# Altium integrated library Vishay Sprague Tantalum Axial-Lead Capacitor.IntLib: 132 symbols (part 2 of 2)
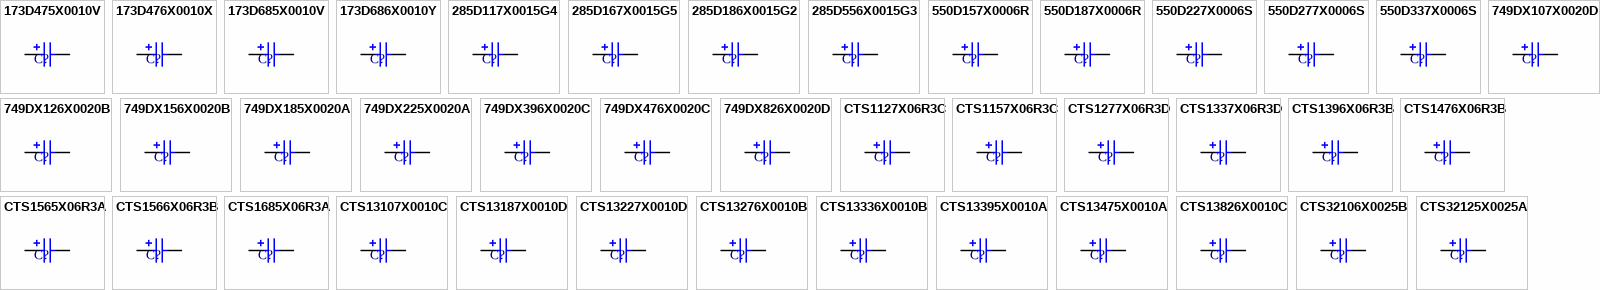
[diagram p4: symbols 173D475X0010V to CTS32125X0025A]

## CTS1476X06R3B
designator C?
Hermetically-Sealed, Axial-Lead, To CCEC Specifications: Type CTS1, 47uF, 20% Tolerance, 6.3 WVDC @ +85°C; Note: See Data Sheet for full range of components; Published: 19-Mar-2004; DatasheetDocument: 28-Mar-2002; PackageReference: CTS-B; Publisher: Altium Limited; ComponentLink1Description: Manufacturer Link; ComponentLink1URL: http://www.vishay.com/; ComponentLink2Description: Datasheet; ComponentLink2URL: http://www.vishay.com/docs/42073/cts749dx.pdf; Value: 47uF
footprint CTS-B (Capacitor, Axial, Polarised; Body 12.8 x 4.9 mm (LxDia. max), Lead Dia. 0.53 mm (typ))
simulation model CAP (Capacitor)
signal-integrity model CTS1476X06R3B2
pins: 1, 2
1 alternate drawing of the same symbol

## CTS1565X06R3A
designator C?
Hermetically-Sealed, Axial-Lead, To CCEC Specifications: Type CTS1, 5.6uF, 20% Tolerance, 6.3 WVDC @ +85°C; Note: See Data Sheet for full range of components; Published: 19-Mar-2004; DatasheetDocument: 28-Mar-2002; PackageReference: CTS-A; Publisher: Altium Limited; ComponentLink1Description: Manufacturer Link; ComponentLink1URL: http://www.vishay.com/; ComponentLink2Description: Datasheet; ComponentLink2URL: http://www.vishay.com/docs/42073/cts749dx.pdf; Value: 5.6uF
footprint CTS-A (Capacitor, Axial, Polarised; Body 8.1 x 3.6 mm (LxDia. max), Lead Dia. 0.53 mm (typ))
simulation model CAP (Capacitor)
signal-integrity model CTS1565X06R3A2
pins: 1, 2
1 alternate drawing of the same symbol

## CTS1566X06R3B
designator C?
Hermetically-Sealed, Axial-Lead, To CCEC Specifications: Type CTS1, 56uF, 20% Tolerance, 6.3 WVDC @ +85°C; Note: See Data Sheet for full range of components; Published: 19-Mar-2004; DatasheetDocument: 28-Mar-2002; PackageReference: CTS-B; Publisher: Altium Limited; ComponentLink1Description: Manufacturer Link; ComponentLink1URL: http://www.vishay.com/; ComponentLink2Description: Datasheet; ComponentLink2URL: http://www.vishay.com/docs/42073/cts749dx.pdf; Value: 56uF
footprint CTS-B (Capacitor, Axial, Polarised; Body 12.8 x 4.9 mm (LxDia. max), Lead Dia. 0.53 mm (typ))
simulation model CAP (Capacitor)
signal-integrity model CTS1566X06R3B2
pins: 1, 2
1 alternate drawing of the same symbol

## CTS1685X06R3A
designator C?
Hermetically-Sealed, Axial-Lead, To CCEC Specifications: Type CTS1, 6.8uF, 20% Tolerance, 6.3 WVDC @ +85°C; Note: See Data Sheet for full range of components; Published: 19-Mar-2004; DatasheetDocument: 28-Mar-2002; PackageReference: CTS-A; Publisher: Altium Limited; ComponentLink1Description: Manufacturer Link; ComponentLink1URL: http://www.vishay.com/; ComponentLink2Description: Datasheet; ComponentLink2URL: http://www.vishay.com/docs/42073/cts749dx.pdf; Value: 6.8uF
footprint CTS-A (Capacitor, Axial, Polarised; Body 8.1 x 3.6 mm (LxDia. max), Lead Dia. 0.53 mm (typ))
simulation model CAP (Capacitor)
signal-integrity model CTS1685X06R3A2
pins: 1, 2
1 alternate drawing of the same symbol

## CTS13107X0010C
designator C?
Hermetically-Sealed, Axial-Lead, To CCEC Specifications: Type CTS13, 100uF, 20% Tolerance, 10 WVDC @ +85°C; Note: See Data Sheet for full range of components; Published: 19-Mar-2004; DatasheetDocument: 28-Mar-2002; PackageReference: CTS-C; Publisher: Altium Limited; ComponentLink1Description: Manufacturer Link; ComponentLink1URL: http://www.vishay.com/; ComponentLink2Description: Datasheet; ComponentLink2URL: http://www.vishay.com/docs/42073/cts749dx.pdf; Value: 100uF
footprint CTS-C (Capacitor, Axial, Polarised; Body 18.2 x 7.5 mm (LxDia. max), Lead Dia. 0.63 mm (typ))
simulation model CAP (Capacitor)
signal-integrity model CTS13107X0010C2
pins: 1, 2
1 alternate drawing of the same symbol

## CTS13187X0010D
designator C?
Hermetically-Sealed, Axial-Lead, To CCEC Specifications: Type CTS13, 180uF, 20% Tolerance, 10 WVDC @ +85°C; Note: See Data Sheet for full range of components; Published: 19-Mar-2004; DatasheetDocument: 28-Mar-2002; PackageReference: CTS-D; Publisher: Altium Limited; ComponentLink1Description: Manufacturer Link; ComponentLink1URL: http://www.vishay.com/; ComponentLink2Description: Datasheet; ComponentLink2URL: http://www.vishay.com/docs/42073/cts749dx.pdf; Value: 180uF
footprint CTS-D (Capacitor, Axial, Polarised; Body 20.8 x 9.1 mm (LxDia. max), Lead Dia. 0.63 mm (typ))
simulation model CAP (Capacitor)
signal-integrity model CTS13187X0010D2
pins: 1, 2
1 alternate drawing of the same symbol

## CTS13227X0010D
designator C?
Hermetically-Sealed, Axial-Lead, To CCEC Specifications: Type CTS13, 220uF, 20% Tolerance, 10 WVDC @ +85°C; Note: See Data Sheet for full range of components; Published: 19-Mar-2004; DatasheetDocument: 28-Mar-2002; PackageReference: CTS-D; Publisher: Altium Limited; ComponentLink1Description: Manufacturer Link; ComponentLink1URL: http://www.vishay.com/; ComponentLink2Description: Datasheet; ComponentLink2URL: http://www.vishay.com/docs/42073/cts749dx.pdf; Value: 220uF
footprint CTS-D (Capacitor, Axial, Polarised; Body 20.8 x 9.1 mm (LxDia. max), Lead Dia. 0.63 mm (typ))
simulation model CAP (Capacitor)
signal-integrity model CTS13227X0010D2
pins: 1, 2
1 alternate drawing of the same symbol

## CTS13276X0010B
designator C?
Hermetically-Sealed, Axial-Lead, To CCEC Specifications: Type CTS13, 27uF, 20% Tolerance, 10 WVDC @ +85°C; Note: See Data Sheet for full range of components; Published: 19-Mar-2004; DatasheetDocument: 28-Mar-2002; PackageReference: CTS-B; Publisher: Altium Limited; ComponentLink1Description: Manufacturer Link; ComponentLink1URL: http://www.vishay.com/; ComponentLink2Description: Datasheet; ComponentLink2URL: http://www.vishay.com/docs/42073/cts749dx.pdf; Value: 27uF
footprint CTS-B (Capacitor, Axial, Polarised; Body 12.8 x 4.9 mm (LxDia. max), Lead Dia. 0.53 mm (typ))
simulation model CAP (Capacitor)
signal-integrity model CTS13276X0010B2
pins: 1, 2
1 alternate drawing of the same symbol

## CTS13336X0010B
designator C?
Hermetically-Sealed, Axial-Lead, To CCEC Specifications: Type CTS13, 33uF, 20% Tolerance, 10 WVDC @ +85°C; Note: See Data Sheet for full range of components; Published: 19-Mar-2004; DatasheetDocument: 28-Mar-2002; PackageReference: CTS-B; Publisher: Altium Limited; ComponentLink1Description: Manufacturer Link; ComponentLink1URL: http://www.vishay.com/; ComponentLink2Description: Datasheet; ComponentLink2URL: http://www.vishay.com/docs/42073/cts749dx.pdf; Value: 33uF
footprint CTS-B (Capacitor, Axial, Polarised; Body 12.8 x 4.9 mm (LxDia. max), Lead Dia. 0.53 mm (typ))
simulation model CAP (Capacitor)
signal-integrity model CTS13336X0010B2
pins: 1, 2
1 alternate drawing of the same symbol

## CTS13395X0010A
designator C?
Hermetically-Sealed, Axial-Lead, To CCEC Specifications: Type CTS13, 3.9uF, 20% Tolerance, 10 WVDC @ +85°C; Note: See Data Sheet for full range of components; Published: 19-Mar-2004; DatasheetDocument: 28-Mar-2002; PackageReference: CTS-A; Publisher: Altium Limited; ComponentLink1Description: Manufacturer Link; ComponentLink1URL: http://www.vishay.com/; ComponentLink2Description: Datasheet; ComponentLink2URL: http://www.vishay.com/docs/42073/cts749dx.pdf; Value: 3.9uF
footprint CTS-A (Capacitor, Axial, Polarised; Body 8.1 x 3.6 mm (LxDia. max), Lead Dia. 0.53 mm (typ))
simulation model CAP (Capacitor)
signal-integrity model CTS13395X0010A2
pins: 1, 2
1 alternate drawing of the same symbol

## CTS13475X0010A
designator C?
Hermetically-Sealed, Axial-Lead, To CCEC Specifications: Type CTS13, 4.7uF, 20% Tolerance, 10 WVDC @ +85°C; Note: See Data Sheet for full range of components; Published: 19-Mar-2004; DatasheetDocument: 28-Mar-2002; PackageReference: CTS-A; Publisher: Altium Limited; ComponentLink1Description: Manufacturer Link; ComponentLink1URL: http://www.vishay.com/; ComponentLink2Description: Datasheet; ComponentLink2URL: http://www.vishay.com/docs/42073/cts749dx.pdf; Value: 4.7uF
footprint CTS-A (Capacitor, Axial, Polarised; Body 8.1 x 3.6 mm (LxDia. max), Lead Dia. 0.53 mm (typ))
simulation model CAP (Capacitor)
signal-integrity model CTS13475X0010A2
pins: 1, 2
1 alternate drawing of the same symbol

## CTS13826X0010C
designator C?
Hermetically-Sealed, Axial-Lead, To CCEC Specifications: Type CTS13, 82uF, 20% Tolerance, 10 WVDC @ +85°C; Note: See Data Sheet for full range of components; Published: 19-Mar-2004; DatasheetDocument: 28-Mar-2002; PackageReference: CTS-C; Publisher: Altium Limited; ComponentLink1Description: Manufacturer Link; ComponentLink1URL: http://www.vishay.com/; ComponentLink2Description: Datasheet; ComponentLink2URL: http://www.vishay.com/docs/42073/cts749dx.pdf; Value: 82uF
footprint CTS-C (Capacitor, Axial, Polarised; Body 18.2 x 7.5 mm (LxDia. max), Lead Dia. 0.63 mm (typ))
simulation model CAP (Capacitor)
signal-integrity model CTS13826X0010C2
pins: 1, 2
1 alternate drawing of the same symbol

## CTS32106X0025B
designator C?
Hermetically-Sealed, Axial-Lead, To CCEC Specifications: Type CTS32, 10uF, 20% Tolerance, 25 WVDC @ +85°C; Note: See Data Sheet for full range of components; Published: 19-Mar-2004; DatasheetDocument: 28-Mar-2002; PackageReference: CTS-B; Publisher: Altium Limited; ComponentLink1Description: Manufacturer Link; ComponentLink1URL: http://www.vishay.com/; ComponentLink2Description: Datasheet; ComponentLink2URL: http://www.vishay.com/docs/42073/cts749dx.pdf; Value: 10uF
footprint CTS-B (Capacitor, Axial, Polarised; Body 12.8 x 4.9 mm (LxDia. max), Lead Dia. 0.53 mm (typ))
simulation model CAP (Capacitor)
signal-integrity model CTS32106X0025B2
pins: 1, 2
1 alternate drawing of the same symbol

## CTS32125X0025A
designator C?
Hermetically-Sealed, Axial-Lead, To CCEC Specifications: Type CTS32, 1.2uF, 20% Tolerance, 25 WVDC @ +85°C; Note: See Data Sheet for full range of components; Published: 19-Mar-2004; DatasheetDocument: 28-Mar-2002; PackageReference: CTS-A; Publisher: Altium Limited; ComponentLink1Description: Manufacturer Link; ComponentLink1URL: http://www.vishay.com/; ComponentLink2Description: Datasheet; ComponentLink2URL: http://www.vishay.com/docs/42073/cts749dx.pdf; Value: 1.2uF
footprint CTS-A (Capacitor, Axial, Polarised; Body 8.1 x 3.6 mm (LxDia. max), Lead Dia. 0.53 mm (typ))
simulation model CAP (Capacitor)
signal-integrity model CTS32125X0025A2
pins: 1, 2
1 alternate drawing of the same symbol

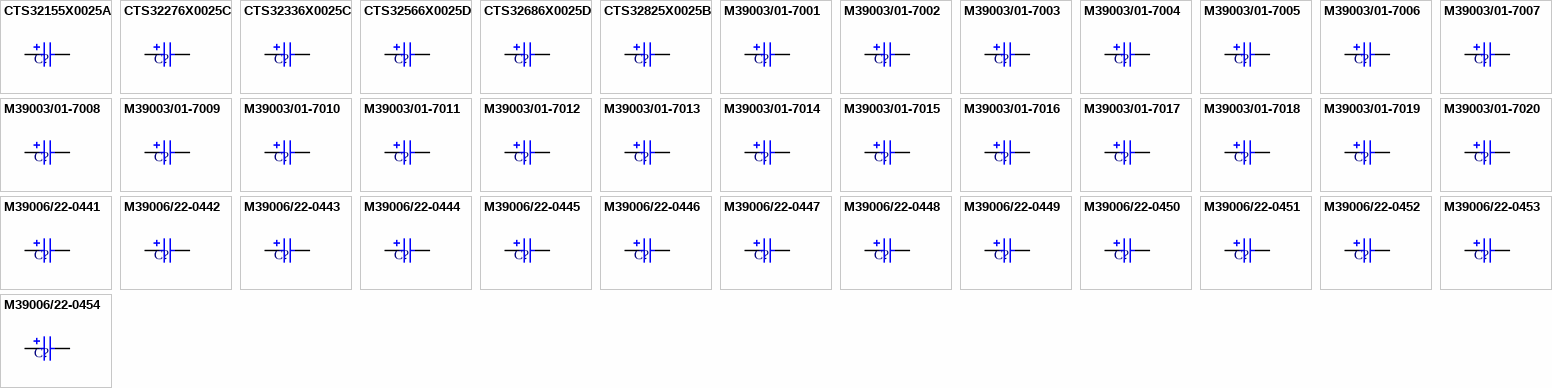
[diagram p2: symbols CTS32155X0025A to M39006/22-0454]

## CTS32155X0025A
designator C?
Hermetically-Sealed, Axial-Lead, To CCEC Specifications: Type CTS32, 1.5uF, 20% Tolerance, 25 WVDC @ +85°C; Note: See Data Sheet for full range of components; Published: 19-Mar-2004; DatasheetDocument: 28-Mar-2002; PackageReference: CTS-A; Publisher: Altium Limited; ComponentLink1Description: Manufacturer Link; ComponentLink1URL: http://www.vishay.com/; ComponentLink2Description: Datasheet; ComponentLink2URL: http://www.vishay.com/docs/42073/cts749dx.pdf; Value: 1.5uF
footprint CTS-A (Capacitor, Axial, Polarised; Body 8.1 x 3.6 mm (LxDia. max), Lead Dia. 0.53 mm (typ))
simulation model CAP (Capacitor)
signal-integrity model CTS32155X0025A2
pins: 1, 2
1 alternate drawing of the same symbol

## CTS32276X0025C
designator C?
Hermetically-Sealed, Axial-Lead, To CCEC Specifications: Type CTS32, 27uF, 20% Tolerance, 25 WVDC @ +85°C; Note: See Data Sheet for full range of components; Published: 19-Mar-2004; DatasheetDocument: 28-Mar-2002; PackageReference: CTS-C; Publisher: Altium Limited; ComponentLink1Description: Manufacturer Link; ComponentLink1URL: http://www.vishay.com/; ComponentLink2Description: Datasheet; ComponentLink2URL: http://www.vishay.com/docs/42073/cts749dx.pdf; Value: 27uF
footprint CTS-C (Capacitor, Axial, Polarised; Body 18.2 x 7.5 mm (LxDia. max), Lead Dia. 0.63 mm (typ))
simulation model CAP (Capacitor)
signal-integrity model CTS32276X0025C2
pins: 1, 2
1 alternate drawing of the same symbol

## CTS32336X0025C
designator C?
Hermetically-Sealed, Axial-Lead, To CCEC Specifications: Type CTS32, 33uF, 20% Tolerance, 25 WVDC @ +85°C; Note: See Data Sheet for full range of components; Published: 19-Mar-2004; DatasheetDocument: 28-Mar-2002; PackageReference: CTS-C; Publisher: Altium Limited; ComponentLink1Description: Manufacturer Link; ComponentLink1URL: http://www.vishay.com/; ComponentLink2Description: Datasheet; ComponentLink2URL: http://www.vishay.com/docs/42073/cts749dx.pdf; Value: 33uF
footprint CTS-C (Capacitor, Axial, Polarised; Body 18.2 x 7.5 mm (LxDia. max), Lead Dia. 0.63 mm (typ))
simulation model CAP (Capacitor)
signal-integrity model CTS32336X0025C2
pins: 1, 2
1 alternate drawing of the same symbol

## CTS32566X0025D
designator C?
Hermetically-Sealed, Axial-Lead, To CCEC Specifications: Type CTS32, 56uF, 20% Tolerance, 25 WVDC @ +85°C; Note: See Data Sheet for full range of components; Published: 19-Mar-2004; DatasheetDocument: 28-Mar-2002; PackageReference: CTS-D; Publisher: Altium Limited; ComponentLink1Description: Manufacturer Link; ComponentLink1URL: http://www.vishay.com/; ComponentLink2Description: Datasheet; ComponentLink2URL: http://www.vishay.com/docs/42073/cts749dx.pdf; Value: 56uF
footprint CTS-D (Capacitor, Axial, Polarised; Body 20.8 x 9.1 mm (LxDia. max), Lead Dia. 0.63 mm (typ))
simulation model CAP (Capacitor)
signal-integrity model CTS32566X0025D2
pins: 1, 2
1 alternate drawing of the same symbol

## CTS32686X0025D
designator C?
Hermetically-Sealed, Axial-Lead, To CCEC Specifications: Type CTS32, 68uF, 20% Tolerance, 25 WVDC @ +85°C; Note: See Data Sheet for full range of components; Published: 19-Mar-2004; DatasheetDocument: 28-Mar-2002; PackageReference: CTS-D; Publisher: Altium Limited; ComponentLink1Description: Manufacturer Link; ComponentLink1URL: http://www.vishay.com/; ComponentLink2Description: Datasheet; ComponentLink2URL: http://www.vishay.com/docs/42073/cts749dx.pdf; Value: 68uF
footprint CTS-D (Capacitor, Axial, Polarised; Body 20.8 x 9.1 mm (LxDia. max), Lead Dia. 0.63 mm (typ))
simulation model CAP (Capacitor)
signal-integrity model CTS32686X0025D2
pins: 1, 2
1 alternate drawing of the same symbol

## CTS32825X0025B
designator C?
Hermetically-Sealed, Axial-Lead, To CCEC Specifications: Type CTS32, 8.2uF, 20% Tolerance, 25 WVDC @ +85°C; Note: See Data Sheet for full range of components; Published: 19-Mar-2004; DatasheetDocument: 28-Mar-2002; PackageReference: CTS-B; Publisher: Altium Limited; ComponentLink1Description: Manufacturer Link; ComponentLink1URL: http://www.vishay.com/; ComponentLink2Description: Datasheet; ComponentLink2URL: http://www.vishay.com/docs/42073/cts749dx.pdf; Value: 8.2uF
footprint CTS-B (Capacitor, Axial, Polarised; Body 12.8 x 4.9 mm (LxDia. max), Lead Dia. 0.53 mm (typ))
simulation model CAP (Capacitor)
signal-integrity model CTS32825X0025B2
pins: 1, 2
1 alternate drawing of the same symbol

## M39003/01-7001
designator C?
Military MIL-C-39003 Qualified Solid-Electrolyte Tantalex Capacitor: Axial-Lead, 5.6uF, 5% Tolerance, 6 WVDC @ +85°C, Surge = 8V; Note: See Data Sheet for full range of components; Published: 19-Mar-2004; DatasheetDocument: 26-Mar-2002; PackageReference: CSR13-A; Publisher: Altium Limited; ComponentLink1Description: Manufacturer Link; ComponentLink1URL: http://www.vishay.com/; ComponentLink2Description: Datasheet; ComponentLink2URL: http://www.vishay.com/docs/40018/m39003.pdf; Value: 5.6uF
footprint CSR13-A (Capacitor, Axial, Polarised; Body 8.1 x 3.8 mm (LxDia. max), Lead Dia. 0.51 mm (typ))
simulation model CAP (Capacitor)
signal-integrity model M39003/01-7001
pins: 1, 2
1 alternate drawing of the same symbol

## M39003/01-7002
designator C?
Military MIL-C-39003 Qualified Solid-Electrolyte Tantalex Capacitor: Axial-Lead, 5.6uF, 10% Tolerance, 6 WVDC @ +85°C, Surge = 8V; Note: See Data Sheet for full range of components; Published: 19-Mar-2004; DatasheetDocument: 26-Mar-2002; PackageReference: CSR13-A; Publisher: Altium Limited; ComponentLink1Description: Manufacturer Link; ComponentLink1URL: http://www.vishay.com/; ComponentLink2Description: Datasheet; ComponentLink2URL: http://www.vishay.com/docs/40018/m39003.pdf; Value: 5.6uF
footprint CSR13-A (Capacitor, Axial, Polarised; Body 8.1 x 3.8 mm (LxDia. max), Lead Dia. 0.51 mm (typ))
simulation model CAP (Capacitor)
signal-integrity model M39003/01-7002
pins: 1, 2
1 alternate drawing of the same symbol

## M39003/01-7003
designator C?
Military MIL-C-39003 Qualified Solid-Electrolyte Tantalex Capacitor: Axial-Lead, 6.8uF, 5% Tolerance, 6 WVDC @ +85°C, Surge = 8V; Note: See Data Sheet for full range of components; Published: 19-Mar-2004; DatasheetDocument: 26-Mar-2002; PackageReference: CSR13-A; Publisher: Altium Limited; ComponentLink1Description: Manufacturer Link; ComponentLink1URL: http://www.vishay.com/; ComponentLink2Description: Datasheet; ComponentLink2URL: http://www.vishay.com/docs/40018/m39003.pdf; Value: 6.8uF
footprint CSR13-A (Capacitor, Axial, Polarised; Body 8.1 x 3.8 mm (LxDia. max), Lead Dia. 0.51 mm (typ))
simulation model CAP (Capacitor)
signal-integrity model M39003/01-7003
pins: 1, 2
1 alternate drawing of the same symbol

## M39003/01-7004
designator C?
Military MIL-C-39003 Qualified Solid-Electrolyte Tantalex Capacitor: Axial-Lead, 6.8uF, 10% Tolerance, 6 WVDC @ +85°C, Surge = 8V; Note: See Data Sheet for full range of components; Published: 19-Mar-2004; DatasheetDocument: 26-Mar-2002; PackageReference: CSR13-A; Publisher: Altium Limited; ComponentLink1Description: Manufacturer Link; ComponentLink1URL: http://www.vishay.com/; ComponentLink2Description: Datasheet; ComponentLink2URL: http://www.vishay.com/docs/40018/m39003.pdf; Value: 6.8uF
footprint CSR13-A (Capacitor, Axial, Polarised; Body 8.1 x 3.8 mm (LxDia. max), Lead Dia. 0.51 mm (typ))
simulation model CAP (Capacitor)
signal-integrity model M39003/01-7004
pins: 1, 2
1 alternate drawing of the same symbol

## M39003/01-7005
designator C?
Military MIL-C-39003 Qualified Solid-Electrolyte Tantalex Capacitor: Axial-Lead, 6.8uF, 20% Tolerance, 6 WVDC @ +85°C, Surge = 8V; Note: See Data Sheet for full range of components; Published: 19-Mar-2004; DatasheetDocument: 26-Mar-2002; PackageReference: CSR13-A; Publisher: Altium Limited; ComponentLink1Description: Manufacturer Link; ComponentLink1URL: http://www.vishay.com/; ComponentLink2Description: Datasheet; ComponentLink2URL: http://www.vishay.com/docs/40018/m39003.pdf; Value: 6.8uF
footprint CSR13-A (Capacitor, Axial, Polarised; Body 8.1 x 3.8 mm (LxDia. max), Lead Dia. 0.51 mm (typ))
simulation model CAP (Capacitor)
signal-integrity model M39003/01-7005
pins: 1, 2
1 alternate drawing of the same symbol

## M39003/01-7006
designator C?
Military MIL-C-39003 Qualified Solid-Electrolyte Tantalex Capacitor: Axial-Lead, 47uF, 5% Tolerance, 6 WVDC @ +85°C, Surge = 8V; Note: See Data Sheet for full range of components; Published: 19-Mar-2004; DatasheetDocument: 26-Mar-2002; PackageReference: CSR13-B; Publisher: Altium Limited; ComponentLink1Description: Manufacturer Link; ComponentLink1URL: http://www.vishay.com/; ComponentLink2Description: Datasheet; ComponentLink2URL: http://www.vishay.com/docs/40018/m39003.pdf; Value: 47uF
footprint CSR13-B (Capacitor, Axial, Polarised; Body 12.8 x 5.1 mm (LxDia. max), Lead Dia. 0.51 mm (typ))
simulation model CAP (Capacitor)
signal-integrity model M39003/01-7006
pins: 1, 2
1 alternate drawing of the same symbol

## M39003/01-7007
designator C?
Military MIL-C-39003 Qualified Solid-Electrolyte Tantalex Capacitor: Axial-Lead, 47uF, 10% Tolerance, 6 WVDC @ +85°C, Surge = 8V; Note: See Data Sheet for full range of components; Published: 19-Mar-2004; DatasheetDocument: 26-Mar-2002; PackageReference: CSR13-B; Publisher: Altium Limited; ComponentLink1Description: Manufacturer Link; ComponentLink1URL: http://www.vishay.com/; ComponentLink2Description: Datasheet; ComponentLink2URL: http://www.vishay.com/docs/40018/m39003.pdf; Value: 47uF
footprint CSR13-B (Capacitor, Axial, Polarised; Body 12.8 x 5.1 mm (LxDia. max), Lead Dia. 0.51 mm (typ))
simulation model CAP (Capacitor)
signal-integrity model M39003/01-7007
pins: 1, 2
1 alternate drawing of the same symbol

## M39003/01-7008
designator C?
Military MIL-C-39003 Qualified Solid-Electrolyte Tantalex Capacitor: Axial-Lead, 47uF, 20% Tolerance, 6 WVDC @ +85°C, Surge = 8V; Note: See Data Sheet for full range of components; Published: 19-Mar-2004; DatasheetDocument: 26-Mar-2002; PackageReference: CSR13-B; Publisher: Altium Limited; ComponentLink1Description: Manufacturer Link; ComponentLink1URL: http://www.vishay.com/; ComponentLink2Description: Datasheet; ComponentLink2URL: http://www.vishay.com/docs/40018/m39003.pdf; Value: 47uF
footprint CSR13-B (Capacitor, Axial, Polarised; Body 12.8 x 5.1 mm (LxDia. max), Lead Dia. 0.51 mm (typ))
simulation model CAP (Capacitor)
signal-integrity model M39003/01-7008
pins: 1, 2
1 alternate drawing of the same symbol

## M39003/01-7009
designator C?
Military MIL-C-39003 Qualified Solid-Electrolyte Tantalex Capacitor: Axial-Lead, 56uF, 5% Tolerance, 6 WVDC @ +85°C, Surge = 8V; Note: See Data Sheet for full range of components; Published: 19-Mar-2004; DatasheetDocument: 26-Mar-2002; PackageReference: CSR13-B; Publisher: Altium Limited; ComponentLink1Description: Manufacturer Link; ComponentLink1URL: http://www.vishay.com/; ComponentLink2Description: Datasheet; ComponentLink2URL: http://www.vishay.com/docs/40018/m39003.pdf; Value: 56uF
footprint CSR13-B (Capacitor, Axial, Polarised; Body 12.8 x 5.1 mm (LxDia. max), Lead Dia. 0.51 mm (typ))
simulation model CAP (Capacitor)
signal-integrity model M39003/01-7009
pins: 1, 2
1 alternate drawing of the same symbol

## M39003/01-7010
designator C?
Military MIL-C-39003 Qualified Solid-Electrolyte Tantalex Capacitor: Axial-Lead, 56uF, 10% Tolerance, 6 WVDC @ +85°C, Surge = 8V; Note: See Data Sheet for full range of components; Published: 19-Mar-2004; DatasheetDocument: 26-Mar-2002; PackageReference: CSR13-B; Publisher: Altium Limited; ComponentLink1Description: Manufacturer Link; ComponentLink1URL: http://www.vishay.com/; ComponentLink2Description: Datasheet; ComponentLink2URL: http://www.vishay.com/docs/40018/m39003.pdf; Value: 56uF
footprint CSR13-B (Capacitor, Axial, Polarised; Body 12.8 x 5.1 mm (LxDia. max), Lead Dia. 0.51 mm (typ))
simulation model CAP (Capacitor)
signal-integrity model M39003/01-7010
pins: 1, 2
1 alternate drawing of the same symbol

## M39003/01-7011
designator C?
Military MIL-C-39003 Qualified Solid-Electrolyte Tantalex Capacitor: Axial-Lead, 150uF, 5% Tolerance, 6 WVDC @ +85°C, Surge = 8V; Note: See Data Sheet for full range of components; Published: 19-Mar-2004; DatasheetDocument: 26-Mar-2002; PackageReference: CSR13-C; Publisher: Altium Limited; ComponentLink1Description: Manufacturer Link; ComponentLink1URL: http://www.vishay.com/; ComponentLink2Description: Datasheet; ComponentLink2URL: http://www.vishay.com/docs/40018/m39003.pdf; Value: 150uF
footprint CSR13-C (Capacitor, Axial, Polarised; Body 18.2 x 7.7 mm (LxDia. max), Lead Dia. 0.64 mm (typ))
simulation model CAP (Capacitor)
signal-integrity model M39003/01-7011
pins: 1, 2
1 alternate drawing of the same symbol

## M39003/01-7012
designator C?
Military MIL-C-39003 Qualified Solid-Electrolyte Tantalex Capacitor: Axial-Lead, 150uF, 10% Tolerance, 6 WVDC @ +85°C, Surge = 8V; Note: See Data Sheet for full range of components; Published: 19-Mar-2004; DatasheetDocument: 26-Mar-2002; PackageReference: CSR13-C; Publisher: Altium Limited; ComponentLink1Description: Manufacturer Link; ComponentLink1URL: http://www.vishay.com/; ComponentLink2Description: Datasheet; ComponentLink2URL: http://www.vishay.com/docs/40018/m39003.pdf; Value: 150uF
footprint CSR13-C (Capacitor, Axial, Polarised; Body 18.2 x 7.7 mm (LxDia. max), Lead Dia. 0.64 mm (typ))
simulation model CAP (Capacitor)
signal-integrity model M39003/01-7012
pins: 1, 2
1 alternate drawing of the same symbol

## M39003/01-7013
designator C?
Military MIL-C-39003 Qualified Solid-Electrolyte Tantalex Capacitor: Axial-Lead, 150uF, 20% Tolerance, 6 WVDC @ +85°C, Surge = 8V; Note: See Data Sheet for full range of components; Published: 19-Mar-2004; DatasheetDocument: 26-Mar-2002; PackageReference: CSR13-C; Publisher: Altium Limited; ComponentLink1Description: Manufacturer Link; ComponentLink1URL: http://www.vishay.com/; ComponentLink2Description: Datasheet; ComponentLink2URL: http://www.vishay.com/docs/40018/m39003.pdf; Value: 150uF
footprint CSR13-C (Capacitor, Axial, Polarised; Body 18.2 x 7.7 mm (LxDia. max), Lead Dia. 0.64 mm (typ))
simulation model CAP (Capacitor)
signal-integrity model M39003/01-7013
pins: 1, 2
1 alternate drawing of the same symbol

## M39003/01-7014
designator C?
Military MIL-C-39003 Qualified Solid-Electrolyte Tantalex Capacitor: Axial-Lead, 180uF, 5% Tolerance, 6 WVDC @ +85°C, Surge = 8V; Note: See Data Sheet for full range of components; Published: 19-Mar-2004; DatasheetDocument: 26-Mar-2002; PackageReference: CSR13-C; Publisher: Altium Limited; ComponentLink1Description: Manufacturer Link; ComponentLink1URL: http://www.vishay.com/; ComponentLink2Description: Datasheet; ComponentLink2URL: http://www.vishay.com/docs/40018/m39003.pdf; Value: 180uF
footprint CSR13-C (Capacitor, Axial, Polarised; Body 18.2 x 7.7 mm (LxDia. max), Lead Dia. 0.64 mm (typ))
simulation model CAP (Capacitor)
signal-integrity model M39003/01-7014
pins: 1, 2
1 alternate drawing of the same symbol

## M39003/01-7015
designator C?
Military MIL-C-39003 Qualified Solid-Electrolyte Tantalex Capacitor: Axial-Lead, 180uF, 10% Tolerance, 6 WVDC @ +85°C, Surge = 8V; Note: See Data Sheet for full range of components; Published: 19-Mar-2004; DatasheetDocument: 26-Mar-2002; PackageReference: CSR13-C; Publisher: Altium Limited; ComponentLink1Description: Manufacturer Link; ComponentLink1URL: http://www.vishay.com/; ComponentLink2Description: Datasheet; ComponentLink2URL: http://www.vishay.com/docs/40018/m39003.pdf; Value: 180uF
footprint CSR13-C (Capacitor, Axial, Polarised; Body 18.2 x 7.7 mm (LxDia. max), Lead Dia. 0.64 mm (typ))
simulation model CAP (Capacitor)
signal-integrity model M39003/01-7015
pins: 1, 2
1 alternate drawing of the same symbol

## M39003/01-7016
designator C?
Military MIL-C-39003 Qualified Solid-Electrolyte Tantalex Capacitor: Axial-Lead, 270uF, 5% Tolerance, 6 WVDC @ +85°C, Surge = 8V; Note: See Data Sheet for full range of components; Published: 19-Mar-2004; DatasheetDocument: 26-Mar-2002; PackageReference: CSR13-D; Publisher: Altium Limited; ComponentLink1Description: Manufacturer Link; ComponentLink1URL: http://www.vishay.com/; ComponentLink2Description: Datasheet; ComponentLink2URL: http://www.vishay.com/docs/40018/m39003.pdf; Value: 270uF
footprint CSR13-D (Capacitor, Axial, Polarised; Body 20.8 x 9.3 mm (LxDia. max), Lead Dia. 0.64 mm (typ))
simulation model CAP (Capacitor)
signal-integrity model M39003/01-7016
pins: 1, 2
1 alternate drawing of the same symbol

## M39003/01-7017
designator C?
Military MIL-C-39003 Qualified Solid-Electrolyte Tantalex Capacitor: Axial-Lead, 270uF, 10% Tolerance, 6 WVDC @ +85°C, Surge = 8V; Note: See Data Sheet for full range of components; Published: 19-Mar-2004; DatasheetDocument: 26-Mar-2002; PackageReference: CSR13-D; Publisher: Altium Limited; ComponentLink1Description: Manufacturer Link; ComponentLink1URL: http://www.vishay.com/; ComponentLink2Description: Datasheet; ComponentLink2URL: http://www.vishay.com/docs/40018/m39003.pdf; Value: 270uF
footprint CSR13-D (Capacitor, Axial, Polarised; Body 20.8 x 9.3 mm (LxDia. max), Lead Dia. 0.64 mm (typ))
simulation model CAP (Capacitor)
signal-integrity model M39003/01-7017
pins: 1, 2
1 alternate drawing of the same symbol

## M39003/01-7018
designator C?
Military MIL-C-39003 Qualified Solid-Electrolyte Tantalex Capacitor: Axial-Lead, 330uF, 5% Tolerance, 6 WVDC @ +85°C, Surge = 8V; Note: See Data Sheet for full range of components; Published: 19-Mar-2004; DatasheetDocument: 26-Mar-2002; PackageReference: CSR13-D; Publisher: Altium Limited; ComponentLink1Description: Manufacturer Link; ComponentLink1URL: http://www.vishay.com/; ComponentLink2Description: Datasheet; ComponentLink2URL: http://www.vishay.com/docs/40018/m39003.pdf; Value: 330uF
footprint CSR13-D (Capacitor, Axial, Polarised; Body 20.8 x 9.3 mm (LxDia. max), Lead Dia. 0.64 mm (typ))
simulation model CAP (Capacitor)
signal-integrity model M39003/01-7018
pins: 1, 2
1 alternate drawing of the same symbol

## M39003/01-7019
designator C?
Military MIL-C-39003 Qualified Solid-Electrolyte Tantalex Capacitor: Axial-Lead, 330uF, 10% Tolerance, 6 WVDC @ +85°C, Surge = 8V; Note: See Data Sheet for full range of components; Published: 19-Mar-2004; DatasheetDocument: 26-Mar-2002; PackageReference: CSR13-D; Publisher: Altium Limited; ComponentLink1Description: Manufacturer Link; ComponentLink1URL: http://www.vishay.com/; ComponentLink2Description: Datasheet; ComponentLink2URL: http://www.vishay.com/docs/40018/m39003.pdf; Value: 330uF
footprint CSR13-D (Capacitor, Axial, Polarised; Body 20.8 x 9.3 mm (LxDia. max), Lead Dia. 0.64 mm (typ))
simulation model CAP (Capacitor)
signal-integrity model M39003/01-7019
pins: 1, 2
1 alternate drawing of the same symbol

## M39003/01-7020
designator C?
Military MIL-C-39003 Qualified Solid-Electrolyte Tantalex Capacitor: Axial-Lead, 330uF, 20% Tolerance, 6 WVDC @ +85°C, Surge = 8V; Note: See Data Sheet for full range of components; Published: 19-Mar-2004; DatasheetDocument: 26-Mar-2002; PackageReference: CSR13-D; Publisher: Altium Limited; ComponentLink1Description: Manufacturer Link; ComponentLink1URL: http://www.vishay.com/; ComponentLink2Description: Datasheet; ComponentLink2URL: http://www.vishay.com/docs/40018/m39003.pdf; Value: 330uF
footprint CSR13-D (Capacitor, Axial, Polarised; Body 20.8 x 9.3 mm (LxDia. max), Lead Dia. 0.64 mm (typ))
simulation model CAP (Capacitor)
signal-integrity model M39003/01-7020
pins: 1, 2
1 alternate drawing of the same symbol

## M39006/22-0441
designator C?
Military MIL-C-39006 Qualified Wet Tantalum Capacitor: Axial-Lead, 30uF, 20% Tolerance, 6 WVDC @ +85°C; Note: See Data Sheet for full range of components; Published: 19-Mar-2004; DatasheetDocument: 29-Jan-2003; PackageReference: T1; Publisher: Altium Limited; ComponentLink1Description: Manufacturer Link; ComponentLink1URL: http://www.vishay.com/; ComponentLink2Description: Datasheet; ComponentLink2URL: http://www.vishay.com/docs/40022/m39006.pdf; Value: 30uF
footprint T1 (Capacitor, Axial, Polarised; Body 12.3 x 5.2 mm (LxDia. max), Lead Dia. 0.64 mm (typ))
simulation model CAP (Capacitor)
signal-integrity model M39006/22-0441
pins: 1, 2
1 alternate drawing of the same symbol

## M39006/22-0442
designator C?
Military MIL-C-39006 Qualified Wet Tantalum Capacitor: Axial-Lead, 30uF, 10% Tolerance, 6 WVDC @ +85°C; Note: See Data Sheet for full range of components; Published: 19-Mar-2004; DatasheetDocument: 29-Jan-2003; PackageReference: T1; Publisher: Altium Limited; ComponentLink1Description: Manufacturer Link; ComponentLink1URL: http://www.vishay.com/; ComponentLink2Description: Datasheet; ComponentLink2URL: http://www.vishay.com/docs/40022/m39006.pdf; Value: 30uF
footprint T1 (Capacitor, Axial, Polarised; Body 12.3 x 5.2 mm (LxDia. max), Lead Dia. 0.64 mm (typ))
simulation model CAP (Capacitor)
signal-integrity model M39006/22-0442
pins: 1, 2
1 alternate drawing of the same symbol

## M39006/22-0443
designator C?
Military MIL-C-39006 Qualified Wet Tantalum Capacitor: Axial-Lead, 30uF, 5% Tolerance, 6 WVDC @ +85°C; Note: See Data Sheet for full range of components; Published: 19-Mar-2004; DatasheetDocument: 29-Jan-2003; PackageReference: T1; Publisher: Altium Limited; ComponentLink1Description: Manufacturer Link; ComponentLink1URL: http://www.vishay.com/; ComponentLink2Description: Datasheet; ComponentLink2URL: http://www.vishay.com/docs/40022/m39006.pdf; Value: 30uF
footprint T1 (Capacitor, Axial, Polarised; Body 12.3 x 5.2 mm (LxDia. max), Lead Dia. 0.64 mm (typ))
simulation model CAP (Capacitor)
signal-integrity model M39006/22-0443
pins: 1, 2
1 alternate drawing of the same symbol

## M39006/22-0444
designator C?
Military MIL-C-39006 Qualified Wet Tantalum Capacitor: Axial-Lead, 68uF, 20% Tolerance, 6 WVDC @ +85°C; Note: See Data Sheet for full range of components; Published: 19-Mar-2004; DatasheetDocument: 29-Jan-2003; PackageReference: T1; Publisher: Altium Limited; ComponentLink1Description: Manufacturer Link; ComponentLink1URL: http://www.vishay.com/; ComponentLink2Description: Datasheet; ComponentLink2URL: http://www.vishay.com/docs/40022/m39006.pdf; Value: 68uF
footprint T1 (Capacitor, Axial, Polarised; Body 12.3 x 5.2 mm (LxDia. max), Lead Dia. 0.64 mm (typ))
simulation model CAP (Capacitor)
signal-integrity model M39006/22-0444
pins: 1, 2
1 alternate drawing of the same symbol

## M39006/22-0445
designator C?
Military MIL-C-39006 Qualified Wet Tantalum Capacitor: Axial-Lead, 68uF, 10% Tolerance, 6 WVDC @ +85°C; Note: See Data Sheet for full range of components; Published: 19-Mar-2004; DatasheetDocument: 29-Jan-2003; PackageReference: T1; Publisher: Altium Limited; ComponentLink1Description: Manufacturer Link; ComponentLink1URL: http://www.vishay.com/; ComponentLink2Description: Datasheet; ComponentLink2URL: http://www.vishay.com/docs/40022/m39006.pdf; Value: 68uF
footprint T1 (Capacitor, Axial, Polarised; Body 12.3 x 5.2 mm (LxDia. max), Lead Dia. 0.64 mm (typ))
simulation model CAP (Capacitor)
signal-integrity model M39006/22-0445
pins: 1, 2
1 alternate drawing of the same symbol

## M39006/22-0446
designator C?
Military MIL-C-39006 Qualified Wet Tantalum Capacitor: Axial-Lead, 68uF, 5% Tolerance, 6 WVDC @ +85°C; Note: See Data Sheet for full range of components; Published: 19-Mar-2004; DatasheetDocument: 29-Jan-2003; PackageReference: T1; Publisher: Altium Limited; ComponentLink1Description: Manufacturer Link; ComponentLink1URL: http://www.vishay.com/; ComponentLink2Description: Datasheet; ComponentLink2URL: http://www.vishay.com/docs/40022/m39006.pdf; Value: 68uF
footprint T1 (Capacitor, Axial, Polarised; Body 12.3 x 5.2 mm (LxDia. max), Lead Dia. 0.64 mm (typ))
simulation model CAP (Capacitor)
signal-integrity model M39006/22-0446
pins: 1, 2
1 alternate drawing of the same symbol

## M39006/22-0447
designator C?
Military MIL-C-39006 Qualified Wet Tantalum Capacitor: Axial-Lead, 140uF, 20% Tolerance, 6 WVDC @ +85°C; Note: See Data Sheet for full range of components; Published: 19-Mar-2004; DatasheetDocument: 29-Jan-2003; PackageReference: T2; Publisher: Altium Limited; ComponentLink1Description: Manufacturer Link; ComponentLink1URL: http://www.vishay.com/; ComponentLink2Description: Datasheet; ComponentLink2URL: http://www.vishay.com/docs/40022/m39006.pdf; Value: 140uF
footprint T2 (Capacitor, Axial, Polarised; Body 17.1 x 7.5 mm (LxDia. max), Lead Dia. 0.64 mm (typ))
simulation model CAP (Capacitor)
signal-integrity model M39006/22-0447
pins: 1, 2
1 alternate drawing of the same symbol

## M39006/22-0448
designator C?
Military MIL-C-39006 Qualified Wet Tantalum Capacitor: Axial-Lead, 140uF, 10% Tolerance, 6 WVDC @ +85°C; Note: See Data Sheet for full range of components; Published: 19-Mar-2004; DatasheetDocument: 29-Jan-2003; PackageReference: T2; Publisher: Altium Limited; ComponentLink1Description: Manufacturer Link; ComponentLink1URL: http://www.vishay.com/; ComponentLink2Description: Datasheet; ComponentLink2URL: http://www.vishay.com/docs/40022/m39006.pdf; Value: 140uF
footprint T2 (Capacitor, Axial, Polarised; Body 17.1 x 7.5 mm (LxDia. max), Lead Dia. 0.64 mm (typ))
simulation model CAP (Capacitor)
signal-integrity model M39006/22-0448
pins: 1, 2
1 alternate drawing of the same symbol

## M39006/22-0449
designator C?
Military MIL-C-39006 Qualified Wet Tantalum Capacitor: Axial-Lead, 140uF, 5% Tolerance, 6 WVDC @ +85°C; Note: See Data Sheet for full range of components; Published: 19-Mar-2004; DatasheetDocument: 29-Jan-2003; PackageReference: T2; Publisher: Altium Limited; ComponentLink1Description: Manufacturer Link; ComponentLink1URL: http://www.vishay.com/; ComponentLink2Description: Datasheet; ComponentLink2URL: http://www.vishay.com/docs/40022/m39006.pdf; Value: 140uF
footprint T2 (Capacitor, Axial, Polarised; Body 17.1 x 7.5 mm (LxDia. max), Lead Dia. 0.64 mm (typ))
simulation model CAP (Capacitor)
signal-integrity model M39006/22-0449
pins: 1, 2
1 alternate drawing of the same symbol

## M39006/22-0450
designator C?
Military MIL-C-39006 Qualified Wet Tantalum Capacitor: Axial-Lead, 270uF, 20% Tolerance, 6 WVDC @ +85°C; Note: See Data Sheet for full range of components; Published: 19-Mar-2004; DatasheetDocument: 29-Jan-2003; PackageReference: T2; Publisher: Altium Limited; ComponentLink1Description: Manufacturer Link; ComponentLink1URL: http://www.vishay.com/; ComponentLink2Description: Datasheet; ComponentLink2URL: http://www.vishay.com/docs/40022/m39006.pdf; Value: 270uF
footprint T2 (Capacitor, Axial, Polarised; Body 17.1 x 7.5 mm (LxDia. max), Lead Dia. 0.64 mm (typ))
simulation model CAP (Capacitor)
signal-integrity model M39006/22-0450
pins: 1, 2
1 alternate drawing of the same symbol

## M39006/22-0451
designator C?
Military MIL-C-39006 Qualified Wet Tantalum Capacitor: Axial-Lead, 270uF, 10% Tolerance, 6 WVDC @ +85°C; Note: See Data Sheet for full range of components; Published: 19-Mar-2004; DatasheetDocument: 29-Jan-2003; PackageReference: T2; Publisher: Altium Limited; ComponentLink1Description: Manufacturer Link; ComponentLink1URL: http://www.vishay.com/; ComponentLink2Description: Datasheet; ComponentLink2URL: http://www.vishay.com/docs/40022/m39006.pdf; Value: 270uF
footprint T2 (Capacitor, Axial, Polarised; Body 17.1 x 7.5 mm (LxDia. max), Lead Dia. 0.64 mm (typ))
simulation model CAP (Capacitor)
signal-integrity model M39006/22-0451
pins: 1, 2
1 alternate drawing of the same symbol

## M39006/22-0452
designator C?
Military MIL-C-39006 Qualified Wet Tantalum Capacitor: Axial-Lead, 270uF, 5% Tolerance, 6 WVDC @ +85°C; Note: See Data Sheet for full range of components; Published: 19-Mar-2004; DatasheetDocument: 29-Jan-2003; PackageReference: T2; Publisher: Altium Limited; ComponentLink1Description: Manufacturer Link; ComponentLink1URL: http://www.vishay.com/; ComponentLink2Description: Datasheet; ComponentLink2URL: http://www.vishay.com/docs/40022/m39006.pdf; Value: 270uF
footprint T2 (Capacitor, Axial, Polarised; Body 17.1 x 7.5 mm (LxDia. max), Lead Dia. 0.64 mm (typ))
simulation model CAP (Capacitor)
signal-integrity model M39006/22-0452
pins: 1, 2
1 alternate drawing of the same symbol

## M39006/22-0453
designator C?
Military MIL-C-39006 Qualified Wet Tantalum Capacitor: Axial-Lead, 330uF, 20% Tolerance, 6 WVDC @ +85°C; Note: See Data Sheet for full range of components; Published: 19-Mar-2004; DatasheetDocument: 29-Jan-2003; PackageReference: T3; Publisher: Altium Limited; ComponentLink1Description: Manufacturer Link; ComponentLink1URL: http://www.vishay.com/; ComponentLink2Description: Datasheet; ComponentLink2URL: http://www.vishay.com/docs/40022/m39006.pdf; Value: 330uF
footprint T3 (Capacitor, Axial, Polarised; Body 20.2 x 9.9 mm (LxDia. max), Lead Dia. 0.64 mm (typ))
simulation model CAP (Capacitor)
signal-integrity model M39006/22-0453
pins: 1, 2
1 alternate drawing of the same symbol

## M39006/22-0454
designator C?
Military MIL-C-39006 Qualified Wet Tantalum Capacitor: Axial-Lead, 330uF, 10% Tolerance, 6 WVDC @ +85°C; Note: See Data Sheet for full range of components; Published: 19-Mar-2004; DatasheetDocument: 29-Jan-2003; PackageReference: T3; Publisher: Altium Limited; ComponentLink1Description: Manufacturer Link; ComponentLink1URL: http://www.vishay.com/; ComponentLink2Description: Datasheet; ComponentLink2URL: http://www.vishay.com/docs/40022/m39006.pdf; Value: 330uF
footprint T3 (Capacitor, Axial, Polarised; Body 20.2 x 9.9 mm (LxDia. max), Lead Dia. 0.64 mm (typ))
simulation model CAP (Capacitor)
signal-integrity model M39006/22-0454
pins: 1, 2
1 alternate drawing of the same symbol

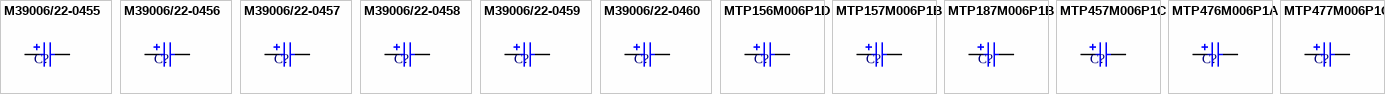
[diagram p3: symbols M39006/22-0455 to MTP477M006P1C]

## M39006/22-0455
designator C?
Military MIL-C-39006 Qualified Wet Tantalum Capacitor: Axial-Lead, 330uF, 5% Tolerance, 6 WVDC @ +85°C; Note: See Data Sheet for full range of components; Published: 19-Mar-2004; DatasheetDocument: 29-Jan-2003; PackageReference: T3; Publisher: Altium Limited; ComponentLink1Description: Manufacturer Link; ComponentLink1URL: http://www.vishay.com/; ComponentLink2Description: Datasheet; ComponentLink2URL: http://www.vishay.com/docs/40022/m39006.pdf; Value: 330uF
footprint T3 (Capacitor, Axial, Polarised; Body 20.2 x 9.9 mm (LxDia. max), Lead Dia. 0.64 mm (typ))
simulation model CAP (Capacitor)
signal-integrity model M39006/22-0455
pins: 1, 2
1 alternate drawing of the same symbol

## M39006/22-0456
designator C?
Military MIL-C-39006 Qualified Wet Tantalum Capacitor: Axial-Lead, 560uF, 20% Tolerance, 6 WVDC @ +85°C; Note: See Data Sheet for full range of components; Published: 19-Mar-2004; DatasheetDocument: 29-Jan-2003; PackageReference: T3; Publisher: Altium Limited; ComponentLink1Description: Manufacturer Link; ComponentLink1URL: http://www.vishay.com/; ComponentLink2Description: Datasheet; ComponentLink2URL: http://www.vishay.com/docs/40022/m39006.pdf; Value: 560uF
footprint T3 (Capacitor, Axial, Polarised; Body 20.2 x 9.9 mm (LxDia. max), Lead Dia. 0.64 mm (typ))
simulation model CAP (Capacitor)
signal-integrity model M39006/22-0456
pins: 1, 2
1 alternate drawing of the same symbol

## M39006/22-0457
designator C?
Military MIL-C-39006 Qualified Wet Tantalum Capacitor: Axial-Lead, 560uF, 10% Tolerance, 6 WVDC @ +85°C; Note: See Data Sheet for full range of components; Published: 19-Mar-2004; DatasheetDocument: 29-Jan-2003; PackageReference: T3; Publisher: Altium Limited; ComponentLink1Description: Manufacturer Link; ComponentLink1URL: http://www.vishay.com/; ComponentLink2Description: Datasheet; ComponentLink2URL: http://www.vishay.com/docs/40022/m39006.pdf; Value: 560uF
footprint T3 (Capacitor, Axial, Polarised; Body 20.2 x 9.9 mm (LxDia. max), Lead Dia. 0.64 mm (typ))
simulation model CAP (Capacitor)
signal-integrity model M39006/22-0457
pins: 1, 2
1 alternate drawing of the same symbol

## M39006/22-0458
designator C?
Military MIL-C-39006 Qualified Wet Tantalum Capacitor: Axial-Lead, 560uF, 5% Tolerance, 6 WVDC @ +85°C; Note: See Data Sheet for full range of components; Published: 19-Mar-2004; DatasheetDocument: 29-Jan-2003; PackageReference: T3; Publisher: Altium Limited; ComponentLink1Description: Manufacturer Link; ComponentLink1URL: http://www.vishay.com/; ComponentLink2Description: Datasheet; ComponentLink2URL: http://www.vishay.com/docs/40022/m39006.pdf; Value: 560uF
footprint T3 (Capacitor, Axial, Polarised; Body 20.2 x 9.9 mm (LxDia. max), Lead Dia. 0.64 mm (typ))
simulation model CAP (Capacitor)
signal-integrity model M39006/22-0458
pins: 1, 2
1 alternate drawing of the same symbol

## M39006/22-0459
designator C?
Military MIL-C-39006 Qualified Wet Tantalum Capacitor: Axial-Lead, 1200uF, 20% Tolerance, 6 WVDC @ +85°C; Note: See Data Sheet for full range of components; Published: 19-Mar-2004; DatasheetDocument: 29-Jan-2003; PackageReference: T4; Publisher: Altium Limited; ComponentLink1Description: Manufacturer Link; ComponentLink1URL: http://www.vishay.com/; ComponentLink2Description: Datasheet; ComponentLink2URL: http://www.vishay.com/docs/40022/m39006.pdf; Value: 1200uF
footprint T4 (Capacitor, Axial, Polarised; Body 27.8 x 9.9 mm (LxDia. max), Lead Dia. 0.64 mm (typ))
simulation model CAP (Capacitor)
signal-integrity model M39006/22-0459
pins: 1, 2
1 alternate drawing of the same symbol

## M39006/22-0460
designator C?
Military MIL-C-39006 Qualified Wet Tantalum Capacitor: Axial-Lead, 1200uF, 10% Tolerance, 6 WVDC @ +85°C; Note: See Data Sheet for full range of components; Published: 19-Mar-2004; DatasheetDocument: 29-Jan-2003; PackageReference: T4; Publisher: Altium Limited; ComponentLink1Description: Manufacturer Link; ComponentLink1URL: http://www.vishay.com/; ComponentLink2Description: Datasheet; ComponentLink2URL: http://www.vishay.com/docs/40022/m39006.pdf; Value: 1200uF
footprint T4 (Capacitor, Axial, Polarised; Body 27.8 x 9.9 mm (LxDia. max), Lead Dia. 0.64 mm (typ))
simulation model CAP (Capacitor)
signal-integrity model M39006/22-0460
pins: 1, 2
1 alternate drawing of the same symbol

## MTP156M006P1D
designator C?
Subminiature, Axial-Lead, Wet Tantalum Capacitor: 15uF, 20% Tolerance, 6 VDC; Note: See Data Sheet for full range of components; Published: 19-Mar-2004; DatasheetDocument: 24-Jul-2002; PackageReference: MTP-D; Publisher: Altium Limited; ComponentLink1Description: Manufacturer Link; ComponentLink1URL: http://www.vishay.com/; ComponentLink2Description: Datasheet; ComponentLink2URL: http://www.vishay.com/docs/42076/mtp.pdf; Value: 15uF
footprint MTP-D (Capacitor, Axial, Polarised; Body 7.6 x 2.9 mm (LxDia. max), Lead Dia. 0.51 mm (typ))
simulation model CAP (Capacitor)
signal-integrity model MTP156M006P1D
pins: 1, 2
1 alternate drawing of the same symbol

## MTP157M006P1B
designator C?
Subminiature, Axial-Lead, Wet Tantalum Capacitor: 150uF, 20% Tolerance, 6 VDC; Note: See Data Sheet for full range of components; Published: 19-Mar-2004; DatasheetDocument: 24-Jul-2002; PackageReference: MTP-B; Publisher: Altium Limited; ComponentLink1Description: Manufacturer Link; ComponentLink1URL: http://www.vishay.com/; ComponentLink2Description: Datasheet; ComponentLink2URL: http://www.vishay.com/docs/42076/mtp.pdf; Value: 150uF
footprint MTP-B (Capacitor, Axial, Polarised; Body 15.2 x 3.7 mm (LxDia. max), Lead Dia. 0.51 mm (typ))
simulation model CAP (Capacitor)
signal-integrity model MTP157M006P1B
pins: 1, 2
1 alternate drawing of the same symbol

## MTP187M006P1B
designator C?
Subminiature, Axial-Lead, Wet Tantalum Capacitor: 180uF, 20% Tolerance, 6 VDC; Note: See Data Sheet for full range of components; Published: 19-Mar-2004; DatasheetDocument: 24-Jul-2002; PackageReference: MTP-B; Publisher: Altium Limited; ComponentLink1Description: Manufacturer Link; ComponentLink1URL: http://www.vishay.com/; ComponentLink2Description: Datasheet; ComponentLink2URL: http://www.vishay.com/docs/42076/mtp.pdf; Value: 180uF
footprint MTP-B (Capacitor, Axial, Polarised; Body 15.2 x 3.7 mm (LxDia. max), Lead Dia. 0.51 mm (typ))
simulation model CAP (Capacitor)
signal-integrity model MTP187M006P1B
pins: 1, 2
1 alternate drawing of the same symbol

## MTP457M006P1C
designator C?
Subminiature, Axial-Lead, Wet Tantalum Capacitor: 450uF, 20% Tolerance, 6 VDC; Note: See Data Sheet for full range of components; Published: 19-Mar-2004; DatasheetDocument: 24-Jul-2002; PackageReference: MTP-C; Publisher: Altium Limited; ComponentLink1Description: Manufacturer Link; ComponentLink1URL: http://www.vishay.com/; ComponentLink2Description: Datasheet; ComponentLink2URL: http://www.vishay.com/docs/42076/mtp.pdf; Value: 450uF
footprint MTP-C (Capacitor, Axial, Polarised; Body 19.8 x 5.7 mm (LxDia. max), Lead Dia. 0.51 mm (typ))
simulation model CAP (Capacitor)
signal-integrity model MTP457M006P1C
pins: 1, 2
1 alternate drawing of the same symbol

## MTP476M006P1A
designator C?
Subminiature, Axial-Lead, Wet Tantalum Capacitor: 47uF, 20% Tolerance, 6 VDC; Note: See Data Sheet for full range of components; Published: 19-Mar-2004; DatasheetDocument: 24-Jul-2002; PackageReference: MTP-A; Publisher: Altium Limited; ComponentLink1Description: Manufacturer Link; ComponentLink1URL: http://www.vishay.com/; ComponentLink2Description: Datasheet; ComponentLink2URL: http://www.vishay.com/docs/42076/mtp.pdf; Value: 47uF
footprint MTP-A (Capacitor, Axial, Polarised; Body 10.2 x 2.9 mm (LxDia. max), Lead Dia. 0.51 mm (typ))
simulation model CAP (Capacitor)
signal-integrity model MTP476M006P1A
pins: 1, 2
1 alternate drawing of the same symbol

## MTP477M006P1C
designator C?
Subminiature, Axial-Lead, Wet Tantalum Capacitor: 470uF, 20% Tolerance, 6 VDC; Note: See Data Sheet for full range of components; Published: 19-Mar-2004; DatasheetDocument: 24-Jul-2002; PackageReference: MTP-C; Publisher: Altium Limited; ComponentLink1Description: Manufacturer Link; ComponentLink1URL: http://www.vishay.com/; ComponentLink2Description: Datasheet; ComponentLink2URL: http://www.vishay.com/docs/42076/mtp.pdf; Value: 470uF
footprint MTP-C (Capacitor, Axial, Polarised; Body 19.8 x 5.7 mm (LxDia. max), Lead Dia. 0.51 mm (typ))
simulation model CAP (Capacitor)
signal-integrity model MTP477M006P1C
pins: 1, 2
1 alternate drawing of the same symbol